# Altium schematic symbol library D_Schottky_Dual_AC.Schlib: 1 symbol
Pins are listed as number, name and electrical type; pins without a type are passive.

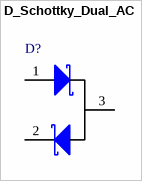
[diagram p0: symbol D_Schottky_Dual_AC]

## D_Schottky_Dual_AC
designator D?
Diode, Schottky
signal-integrity model D Schottky
pins: 1 A1, 2 A2, 3 K
1 alternate drawing of the same symbol